# EAGLE library part SN74HC21DR (library FSAE Electric)
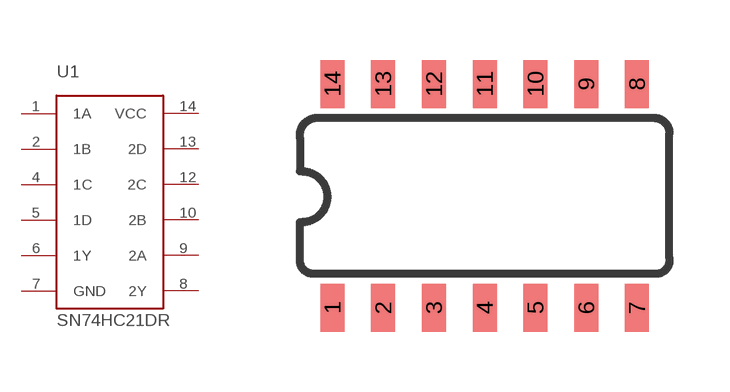
[diagram p96: symbol with the pads of SO-14; footprint SO-14]

Designator prefix U1

## SN74HC21DR (PARTNO: SN74HC21DR)  [SO-14]
1  1A
2  1B
4  1C
5  1D
6  1Y
7  GND
8  2Y
9  2A
10  2B
12  2C
13  2D
14  VCC

## Footprint SO-14 (pad centres in mm)
smd 0.6 x 1.2: 1 -3.81,-2.8; 2 -2.54,-2.8; 3 -1.27,-2.8; 4 0,-2.8; 5 1.27,-2.8; 6 2.54,-2.8; 7 3.81,-2.8; 8 3.81,2.8; 9 2.54,2.8; 10 1.27,2.8; 11 0,2.8; 12 -1.27,2.8; 13 -2.54,2.8; 14 -3.81,2.8